# Altium schematic symbol library 1675RT014.SchLib: 1 symbol
Pins are listed as number, name and electrical type; pins without a type are passive.

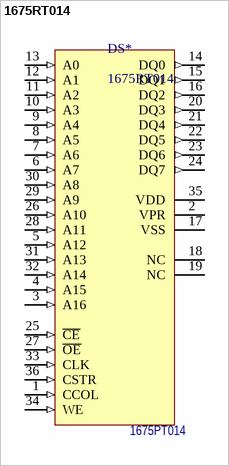
[diagram p0: symbol 1675RT014]

## 1675RT014
designator DS*  Наименование: 1675РТ014
1MBit (128K×8 bit) memory device that can be programmed only one time.; Назначение: Однократно программируемое постоянное запоминающее устройство емкостью 1 МБит (128К×8бит).; Потребление, Вт: 0.132; ComponentLink1Description: Datasheet; ComponentLink1URL: https://integral.by/produktsiya/integralnye-mikroskhemy/elektronnaya-komponentnaya-baza-spetsialnogo-naznacheniya/zapominayushchie-ustroystva-serii-541-537-1632-1623-1617-1635-1644-1642-1669-9000-1835pe2t-khkh-9001/1675rt014.html
footprint 4149.36-1
pins: 1 CCOL (in), 2 VPR (power), 3 A16 (in), 4 A15 (in), 5 A12 (in), 6 A7 (in), 7 A6 (in), 8 A5 (in), 9 A4 (in), 10 A3 (in), 11 A2 (in), 12 A1 (in), 13 A0 (in), 14 DQ0 (out), 15 DQ1 (out), 16 DQ2 (out), 17 VSS (power), 18 NC, 19 NC, 20 DQ3 (out), 21 DQ4 (out), 22 DQ5 (out), 23 DQ6 (out), 24 DQ7 (out), 25 ~{CE} (in), 26 A10 (in), 27 ~{OE} (in), 28 A11 (in), 29 A9 (in), 30 A8 (in), 31 A13 (in), 32 A14 (in), 33 CLK (in), 34 WE (in), 35 VDD (power), 36 CSTR (in)